# EAGLE library part CONN_54819-0578_2_USB_A_SH_IO_8 (library BeagleBone_Black_egl)
CONN_54819-0578_2_USB_A_SH_IO_8
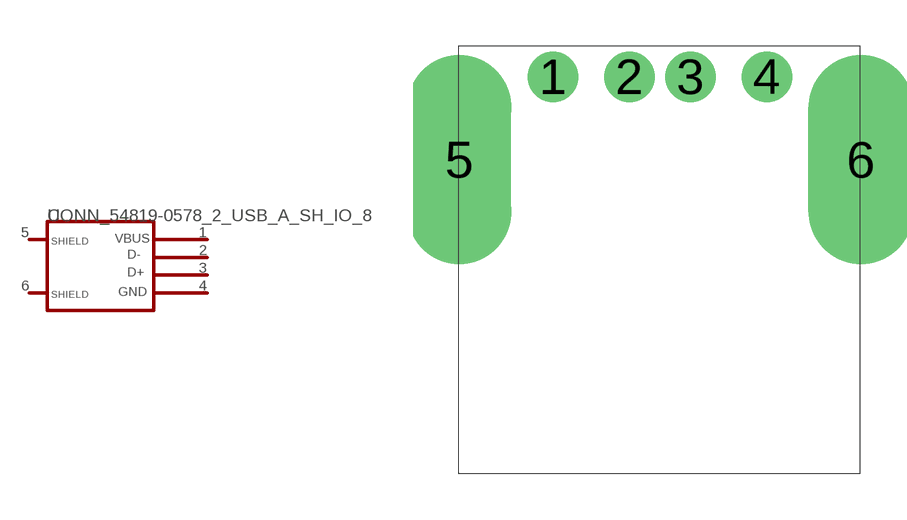
[diagram p1: symbol with the pads of USB_A_SH; footprint USB_A_SH]

Designator prefix -

## CONN_54819-0578_2_USB_A_SH_IO_8  [USB_A_SH]
1  1
2  3
3  2
4  4
5  5
6  6

## Footprint USB_A_SH (pad centres in mm)
drill 1.016 pad 1.651: 1 0,0; 2 2.499,0; 3 4.501,0; 4 7,0
drill 2.413 pad 2.032 long: 5 -3.071,-2.71; 6 10.071,-2.71